# Altium footprint library PassiveSMD.PcbLib: 41 footprints (part 2 of 3)
Each footprint in its own frame and in the unit in brackets; x right, y up, seen from the top. Pads: shape width x height; smd on the part's side, far side on the other; paste and mask are expansions set on the pad; w line width, h text height; cw(c..) or ccw(c..) is an arc to the next point about the centre after c.
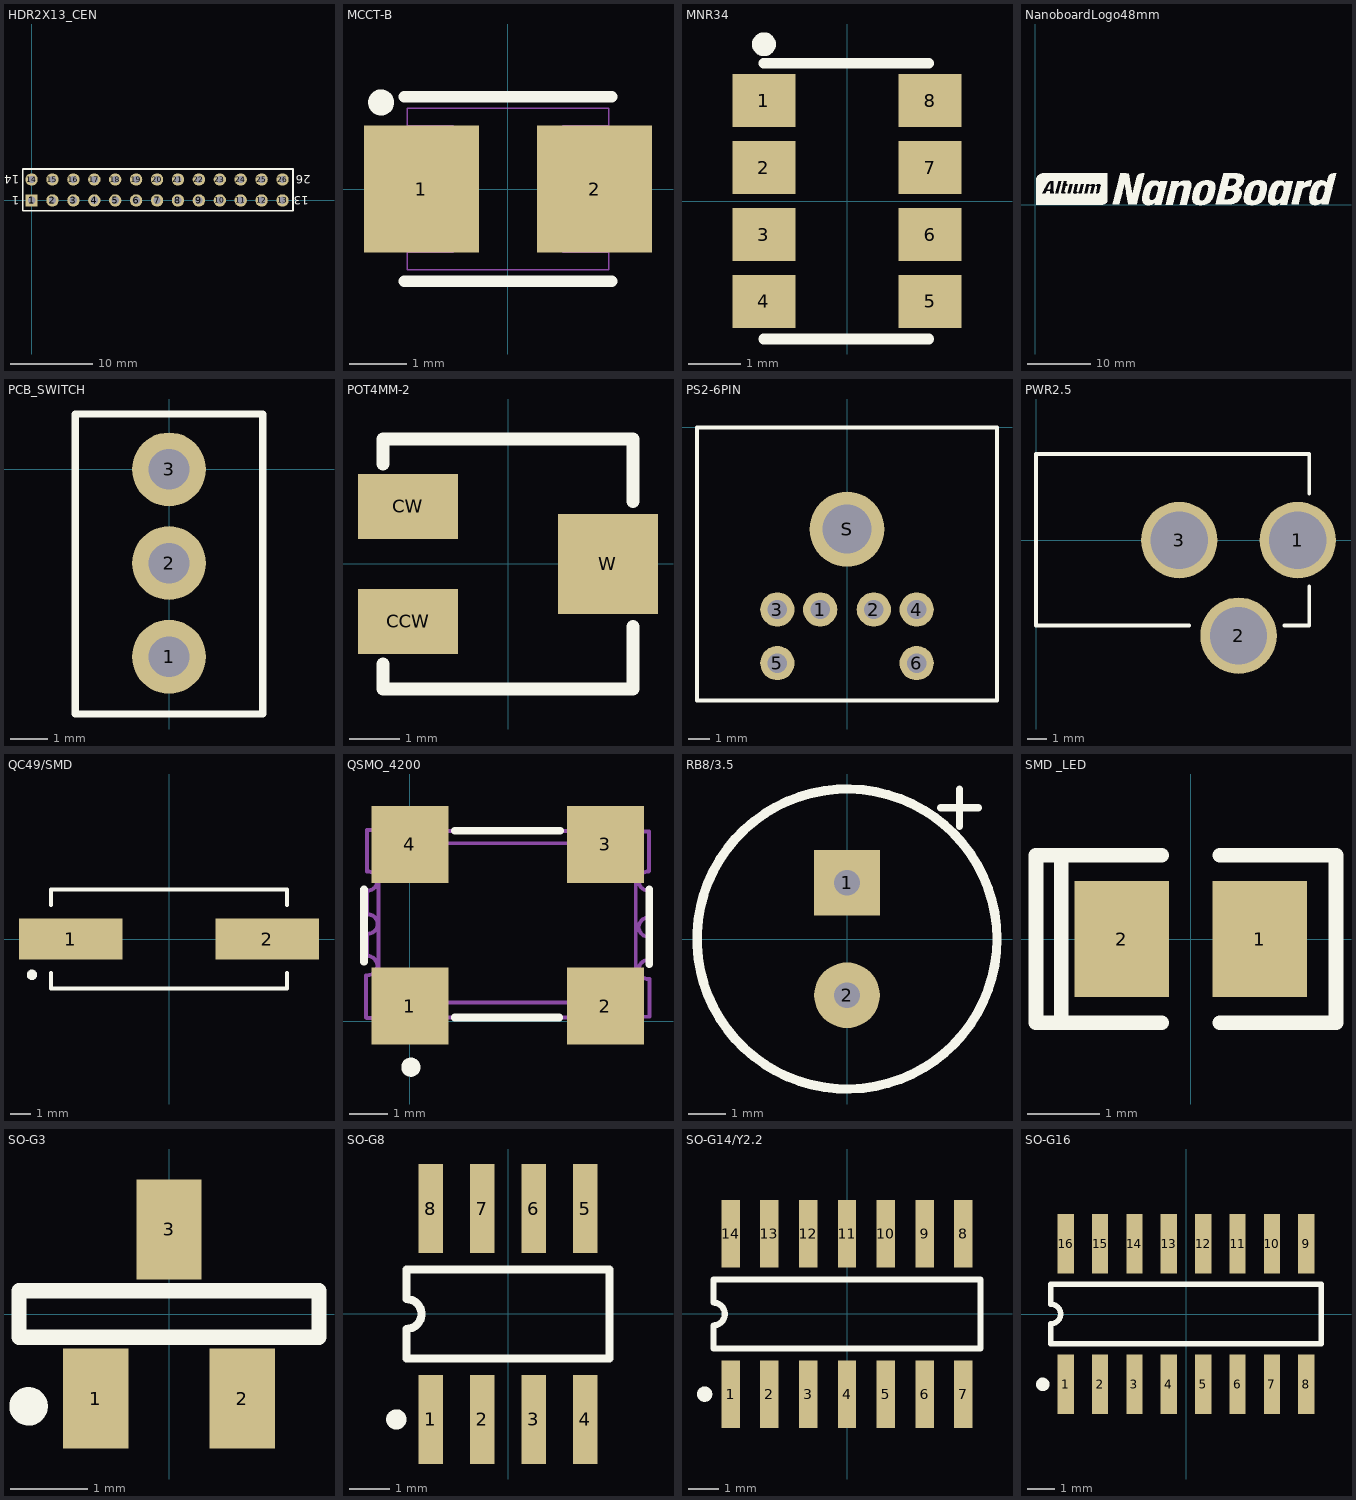
[diagram p1: the footprints below, top view; thin cyan lines are the x and y axes]

## HDR2X13_CEN [mm]
pads (26):
  rect 1.5x1.5 hole 0.9: 1(0,0)
  round 1.5 hole 0.9: 2(2.54,0) 3(5.08,0) 4(7.62,0) 5(10.16,0) 6(12.7,0) 7(15.24,0) 8(17.78,0) 9(20.32,0) 10(22.86,0) 11(25.4,0) 12(27.94,0) 13(30.48,0) 14(0,2.54) 15(2.54,2.54) 16(5.08,2.54) 17(7.62,2.54) 18(10.16,2.54) 19(12.7,2.54) 20(15.24,2.54) 21(17.78,2.54) 22(20.32,2.54) 23(22.86,2.54) 24(25.4,2.54) 25(27.94,2.54) 26(30.48,2.54)
Top Overlay:
  lines w0.2: -1.058,-1.27 31.75,-1.27 31.75,3.81 -1.058,3.81 -1.058,-1.27
  text "1" at -1.524,0.508 h1
  text "14" at -1.524,3.048 h1
  text "13" at 33.655,0.508 h1
  text "26" at 33.909,3.048 h1

## MCCT-B [mm]
pads (2):
  rect 2x2.2 smd: 1(-1.5,0) 2(1.5,0)
Top Overlay:
  circle w0.25: c-2.2,1.5 r0.1
  lines w0.2: -1.8,-1.6 1.8,-1.6 ; -1.8,1.6 1.8,1.6
Mechanical 15:
  lines w0.025: -1.75,-1.1 -0.95,-1.1 -0.95,1.1 -1.75,1.1 ; 1.75,-1.1 0.95,-1.1 0.95,1.1 1.75,1.1 ; -1.75,-1.4 1.75,-1.4 1.75,1.4 -1.75,1.4 -1.75,-1.4

## MNR34 [mm]
pads (8):
  rect 1.2x1 smd: 1(-1.575,1.905) 2(-1.575,0.635) 3(-1.575,-0.635) 4(-1.575,-1.905) 5(1.575,-1.905) 6(1.575,-0.635) 7(1.575,0.635) 8(1.575,1.905)
Top Overlay:
  circle w0.254: c-1.575,2.972 r0.1
  lines w0.2: -1.575,-2.616 1.549,-2.616 ; -1.575,2.616 1.549,2.616

## NanoboardLogo48mm [mm]
Top Overlay:
  drawing of 3446 lines, arcs and shapes, not listed

## PCB_SWITCH [mm]
pads (3):
  round 2 hole 1.1: 1(0,-5.08) 2(0,-2.54) 3(0,0)
Top Overlay:
  lines w0.2: -2.54,-6.63 2.54,-6.63 2.54,1.5 -2.54,1.5 -2.54,-6.63

## POT4MM-2 [mm]
pads (3):
  rect 2x1.3 smd: CCW(-2,-1.15) CW(-2,1.15)
  rect 2x2 smd: W(2,0)
Top Overlay:
  lines w0.254: -2.5,-2 -2.5,-2.5 2.5,-2.5 2.5,-1.25 ; -2.5,2 -2.5,2.5 2.5,2.5 2.5,1.25

## PS2-6PIN [mm]
pads (7):
  round 1.6 hole 0.9: 1(-1.25,-8.5) 2(1.25,-8.5) 3(-3.25,-8.5) 4(3.25,-8.5) 5(-3.25,-11) 6(3.25,-11)
  round 3.5 hole 2.29: S(0,-4.75)
Top Overlay:
  lines w0.2: -7,-12.75 7,-12.75 7,0 -7,0 -7,-12.75

## PWR2.5 [mm]
pads (3):
  round 4 hole 3: 1(13.7,0) 2(10.6,-5) 3(7.5,0)
Top Overlay:
  lines w0.2: 8,-4.475 0,-4.475 0,0.025 0,4.5 14.3,4.5 14.3,2.425 ; 13,-4.475 14.3,-4.475 14.3,-2.425

## QC49/SMD [mm]
pads (2):
  rect 5x2 smd: 1(-4.75,0) 2(4.75,0)
Top Overlay:
  circle w0.25: c-6.625,-1.73 r0.125
  lines w0.2: -5.7,-1.65 -5.7,-2.4 5.7,-2.4 5.7,-1.65 ; -5.7,1.65 -5.7,2.4 5.7,2.4 5.7,1.65

## QSMO_4200 [mm]
pads (4):
  rect 2x2 smd: 1(0,0.4) 2(5.08,0.4) 3(5.08,4.6) 4(0,4.6)
Top Overlay:
  circle w0.25: c0.025,-1.19 r0.125
  lines w0.2: -1.194,1.549 -1.194,3.429 ; 1.162,4.953 3.912,4.953 ; 1.168,0.102 3.886,0.102 ; 6.223,1.489 6.223,3.429
Mechanical 15:
  lines w0.1: -1.143,0.102 -1.143,1.194 ; -1.12,0.09 -0.27,0.09 -0.29,0.11 ; -1.12,3.9 -1.12,4.98 -0.26,4.98 ; -1.118,1.702 -1.118,2.286 ; -1.118,2.794 -1.118,3.378 ; -1.1,1.2 ccw(c-1.1,1.45) -1.1,1.7 ; -1.1,3.4 ccw(c-1.1,3.65) -1.1,3.9 ; -1.09,2.28 ccw(c-1.09,2.53) -1.09,2.78 ; -0.83,0.49 5.87,0.49 5.87,4.63 -0.82,4.63 -0.82,3.91 -0.82,0.51 ; -0.3,0.15 cw(c-0.05,0.15) 0.2,0.15 ; -0.23,4.91 ccw(c0.02,4.91) 0.27,4.91 ; 0.19,0.1 4.78,0.1 ; 0.25,4.95 4.87,4.95 ; 4.8,0.16 cw(c5.05,0.16) 5.3,0.16 ; 4.88,4.91 ccw(c5.13,4.91) 5.38,4.91 ; 5.29,0.12 6.23,0.12 6.23,1.1 ; 5.35,4.94 6.22,4.94 6.22,3.91 ; 6.198,1.62 6.198,2.184 ; 6.2,1.1 cw(c6.2,1.35) 6.2,1.6 ; 6.2,2.2 cw(c6.2,2.45) 6.2,2.7 ; 6.2,3.4 cw(c6.2,3.65) 6.2,3.9 ; 6.223,2.704 6.223,3.378

## RB8/3.5 [mil]
pads (2):
  rect 70x70 hole 27.56: 1(0,60)
  round 70 hole 27.56: 2(0,-60)
Top Overlay:
  circle w10: c0,0 r160
  lines w7.87: 100,140 140,140 ; 120,120 120,160

## SMD _LED [mm]
pads (2):
  rect 1.3x1.6 smd: 1(0.95,0) 2(-0.95,0)
Top Overlay:
  lines w0.2: -1.78,-1.15 -1.78,1.15 ; -0.4,-1.15 -2.13,-1.15 -2.13,1.15 -0.4,1.15 ; 0.4,-1.15 2,-1.15 2,1.15 0.4,1.15

## SO-G3 [mm]
pads (3):
  rect 0.85x1.3 smd: 1(-0.95,-1.1) 2(0.95,-1.1) 3(0,1.1)
Top Overlay:
  circle w0.25: c-1.825,-1.2 r0.125
  lines w0.2: -1.95,-0.3 1.95,-0.3 1.95,0.3 -1.95,0.3 -1.95,-0.3

## SO-G8 [mm]
pads (8):
  rect 0.6x2.2 smd: 1(-1.905,-2.6) 2(-0.635,-2.6) 3(0.635,-2.6) 4(1.905,-2.6) 5(1.905,2.6) 6(0.635,2.6) 7(-0.635,2.6) 8(-1.905,2.6)
Top Overlay:
  circle w0.25: c-2.755,-2.6 r0.125
  lines w0.2: -2.5,-1.1 2.5,-1.1 2.5,1.1 -2.5,1.1 -2.5,0.367 cw(c-2.5,0) -2.5,-0.367 -2.5,-1.1

## SO-G14/Y2.2 [mm]
pads (14):
  rect 0.6x2.2 smd: 1(-3.81,-2.625) 2(-2.54,-2.625) 3(-1.27,-2.625) 4(0,-2.625) 5(1.27,-2.625) 6(2.54,-2.625) 7(3.81,-2.625) 8(3.81,2.625) 9(2.54,2.625) 10(1.27,2.625) 11(0,2.625) 12(-1.27,2.625) 13(-2.54,2.625) 14(-3.81,2.625)
Top Overlay:
  circle w0.25: c-4.66,-2.625 r0.125
  lines w0.2: -4.375,-1.125 4.375,-1.125 4.375,1.125 -4.375,1.125 -4.375,0.375 cw(c-4.375,0) -4.375,-0.375 -4.375,-1.125

## SO-G16 [mm]
pads (16):
  rect 0.6x2.2 smd: 1(-4.445,-2.6) 2(-3.175,-2.6) 3(-1.905,-2.6) 4(-0.635,-2.6) 5(0.635,-2.6) 6(1.905,-2.6) 7(3.175,-2.6) 8(4.445,-2.6) 9(4.445,2.6) 10(3.175,2.6) 11(1.905,2.6) 12(0.635,2.6) 13(-0.635,2.6) 14(-1.905,2.6) 15(-3.175,2.6) 16(-4.445,2.6)
Top Overlay:
  circle w0.25: c-5.295,-2.6 r0.125
  lines w0.2: -5,-1.1 5,-1.1 5,1.1 -5,1.1 -5,0.367 cw(c-5,0) -5,-0.367 -5,-1.1